# Altium footprint library Custom pcb footprint.PcbLib: 87 footprints (part 3 of 6)
Each footprint in its own frame and in the unit in brackets; x right, y up, seen from the top. Pads: shape width x height; smd on the part's side, far side on the other; paste and mask are expansions set on the pad; w line width, h text height; cw(c..) or ccw(c..) is an arc to the next point about the centre after c.
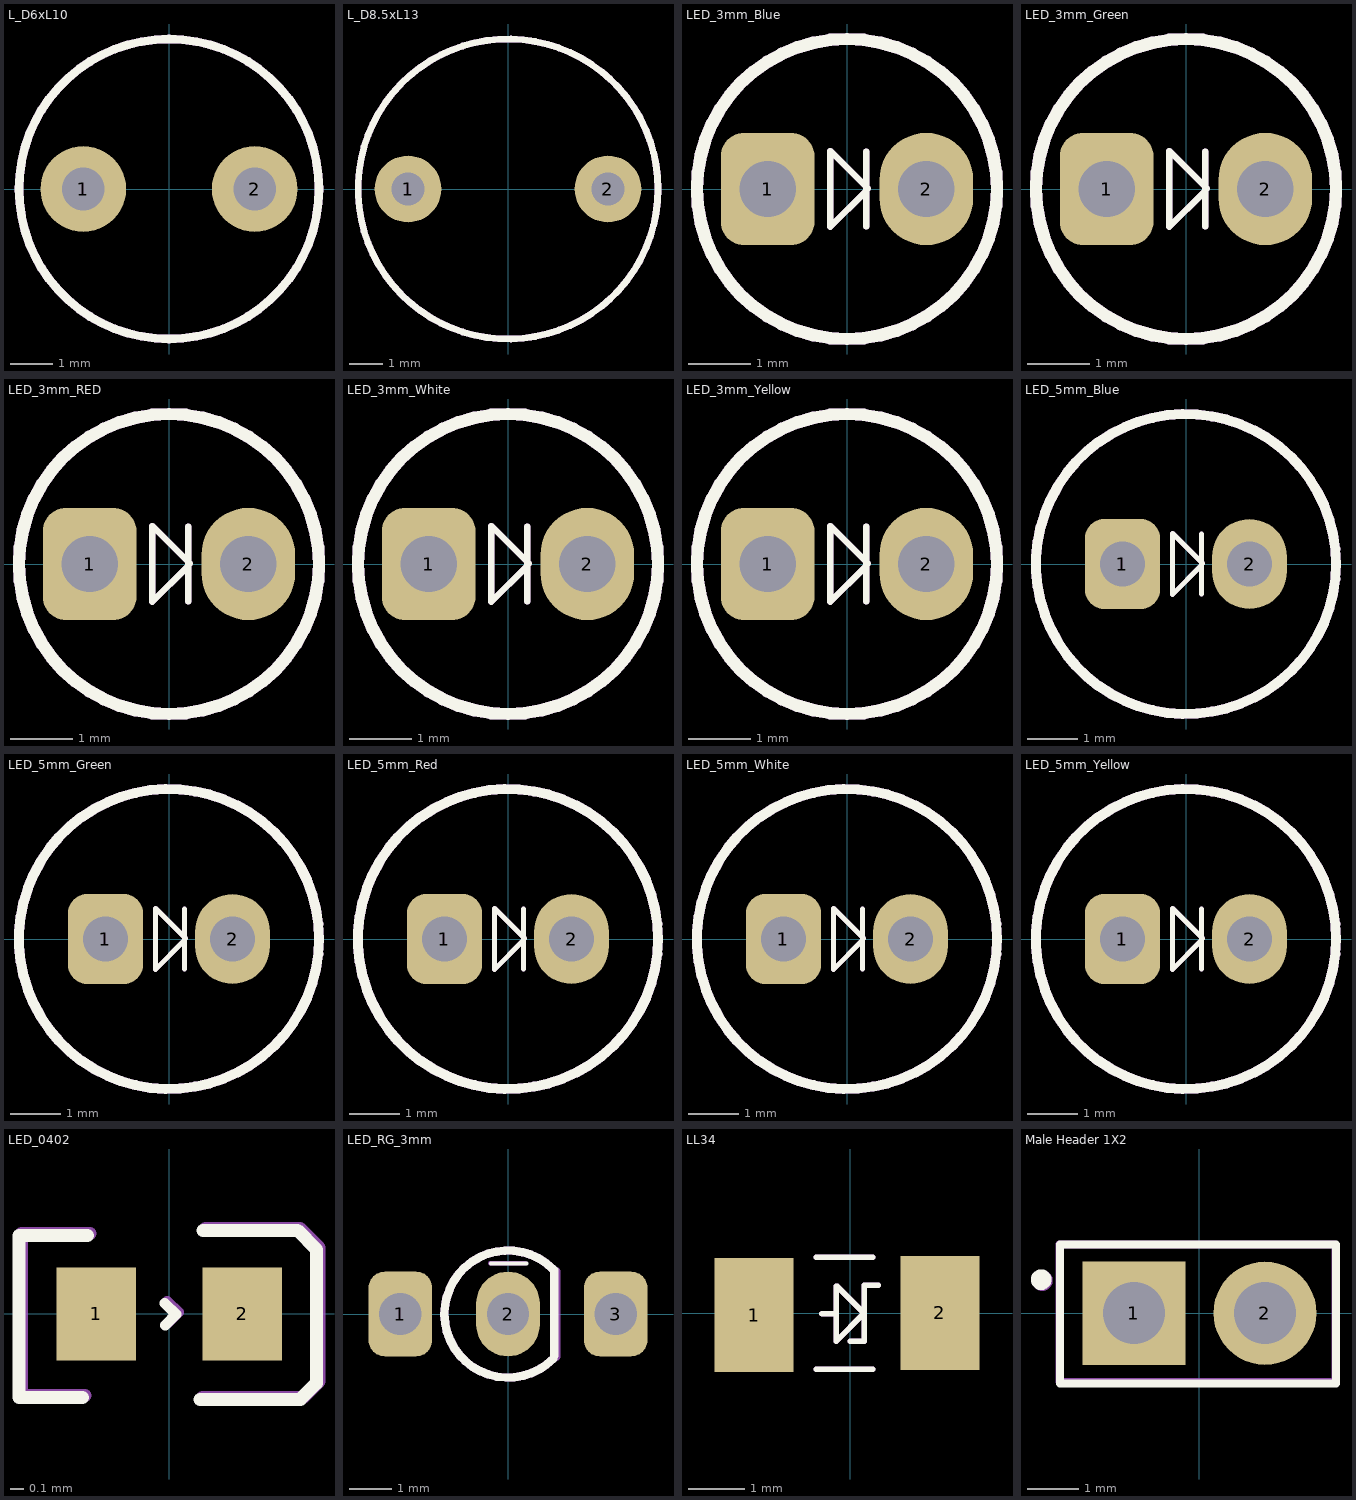
[diagram p2: the footprints below, top view; thin cyan lines are the x and y axes]

## L_D6xL10 [mm] "p=4mm"
pads (2):
  round 2 hole 1: 1(-2,0) 2(2,0)
Top Overlay:
  circle w0.2: c0,0 r3.5
Top Assembly:
  circle w0.2: c0,0 r3.5
  text "'.Designator'" at -1.442,-0.99 h1.52
3D body "L_D6xL10_p4.step": height 10.3, standoff -1.62, extent -3,-3 3,3

## L_D8.5xL13 [mm] "p=6mm"
pads (2):
  round 2 hole 1: 1(-3,0) 2(3,0)
Top Overlay:
  circle w0.2: c0,0 r4.5
Top Assembly:
  circle w0.2: c0,0 r4.5
  text "'.Designator'" at -5.746,-4.238 h1.52
3D body "L_D8.5xL13_p6.step": height 13.3, standoff -1.62, extent -4.25,-4.25 4.25,4.25

## LED_3mm_Blue [mm] "BLUE 3mm P2.54"
pads (2):
  rrect50% 1.5x1.8 hole 0.9: 1(-1.27,0)
  oval 1.5x1.8 hole 0.9: 2(1.27,0)
Top Overlay:
  circle w0.2: c0,0 r2.4
  lines w0.1: 0.29,-0.048 -0.268,-0.606 -0.268,0.61 0.332,0.01 ; 0.31,-0.6 0.31,0.6
Top Assembly:
  circle w0.2: c0,0 r2.4
  lines w0.1: 0.29,-0.048 -0.268,-0.606 -0.268,0.61 0.332,0.01 ; 0.31,-0.6 0.31,0.6
  text "'.Designator'" at -1.721,-1.719 h0.7
3D body "Blue_LED_TH_3mm.step": height 6.32, standoff -2.92, extent -1.925,-1.923 1.733,1.923

## LED_3mm_Green [mm] "Green 3mm P2.54"
pads (2):
  rrect50% 1.5x1.8 hole 0.9: 1(-1.27,0)
  oval 1.5x1.8 hole 0.9: 2(1.27,0)
Top Overlay:
  circle w0.2: c0,0 r2.4
  lines w0.1: 0.29,-0.048 -0.268,-0.606 -0.268,0.61 0.332,0.01 ; 0.31,-0.6 0.31,0.6
Top Assembly:
  circle w0.2: c0,0 r2.4
  lines w0.1: 0.29,-0.048 -0.268,-0.606 -0.268,0.61 0.332,0.01 ; 0.31,-0.6 0.31,0.6
  text "'.Designator'" at -1.721,-1.719 h0.7
3D body "Green_LED_TH_3mm.step": height 6.32, standoff -2.92, extent -1.925,-1.923 1.733,1.923

## LED_3mm_RED [mm] "Red 3mm P2.54"
pads (2):
  rrect50% 1.5x1.8 hole 0.9: 1(-1.27,0)
  oval 1.5x1.8 hole 0.9: 2(1.27,0)
Top Overlay:
  circle w0.2: c0,0 r2.4
  lines w0.1: 0.29,-0.048 -0.268,-0.606 -0.268,0.61 0.332,0.01 ; 0.31,-0.6 0.31,0.6
Top Assembly:
  circle w0.2: c0,0 r2.4
  lines w0.1: 0.29,-0.048 -0.268,-0.606 -0.268,0.61 0.332,0.01 ; 0.31,-0.6 0.31,0.6
  text "'.Designator'" at -1.721,-1.719 h0.7
3D body "Red_LED_TH_3mm.step": height 6.32, standoff -2.92, extent -1.901,-1.892 1.756,1.953

## LED_3mm_White [mm] "White 3mm P2.54"
pads (2):
  rrect50% 1.5x1.8 hole 0.9: 1(-1.27,0)
  oval 1.5x1.8 hole 0.9: 2(1.27,0)
Top Overlay:
  circle w0.2: c0,0 r2.4
  lines w0.1: 0.29,-0.048 -0.268,-0.606 -0.268,0.61 0.332,0.01 ; 0.31,-0.6 0.31,0.6
Top Assembly:
  circle w0.2: c0,0 r2.4
  lines w0.1: 0.29,-0.048 -0.268,-0.606 -0.268,0.61 0.332,0.01 ; 0.31,-0.6 0.31,0.6
  text "'.Designator'" at -1.721,-1.719 h0.7
3D body "White_LED_TH_3mm.step": height 6.32, standoff -2.92, extent -1.925,-1.923 1.733,1.923

## LED_3mm_Yellow [mm] "Yellow 3mm P2.54"
pads (2):
  rrect50% 1.5x1.8 hole 0.9: 1(-1.27,0)
  oval 1.5x1.8 hole 0.9: 2(1.27,0)
Top Overlay:
  circle w0.2: c0,0 r2.4
  lines w0.1: 0.29,-0.048 -0.268,-0.606 -0.268,0.61 0.332,0.01 ; 0.31,-0.6 0.31,0.6
Top Assembly:
  circle w0.2: c0,0 r2.4
  lines w0.1: 0.29,-0.048 -0.268,-0.606 -0.268,0.61 0.332,0.01 ; 0.31,-0.6 0.31,0.6
  text "'.Designator'" at -1.721,-1.719 h0.7
3D body "Yellow_LED_TH_3mm.step": height 6.32, standoff -2.92, extent -1.925,-1.923 1.733,1.923

## LED_5mm_Blue [mm] "BLUE 5mm P2.54"
pads (2):
  rrect50% 1.5x1.8 hole 0.9: 1(-1.27,0)
  oval 1.5x1.8 hole 0.9: 2(1.27,0)
Top Overlay:
  circle w0.2: c0,0 r3
  lines w0.1: 0.29,-0.048 -0.268,-0.606 -0.268,0.61 0.332,0.01 ; 0.31,-0.6 0.31,0.6
Top Assembly:
  circle w0.2: c0,0 r3
  lines w0.1: 0.29,-0.048 -0.268,-0.606 -0.268,0.61 0.332,0.01 ; 0.31,-0.6 0.31,0.6
  text "'.Designator'" at -1.721,-1.719 h0.7
3D body "BLue_LED_TH_5mm.step": height 9.6, standoff -2.92, extent -2.95,-2.95 2.655,2.95

## LED_5mm_Green [mm] "Green 5mm P2.54"
pads (2):
  rrect50% 1.5x1.8 hole 0.9: 1(-1.27,0)
  oval 1.5x1.8 hole 0.9: 2(1.27,0)
Top Overlay:
  circle w0.2: c0,0 r3
  lines w0.1: 0.29,-0.048 -0.268,-0.606 -0.268,0.61 0.332,0.01 ; 0.31,-0.6 0.31,0.6
Top Assembly:
  circle w0.2: c0,0 r3
  lines w0.1: 0.29,-0.048 -0.268,-0.606 -0.268,0.61 0.332,0.01 ; 0.31,-0.6 0.31,0.6
  text "'.Designator'" at -1.721,-1.719 h0.7
3D body "Green_LED_TH_5mm.step": height 9.6, standoff -2.92, extent -2.95,-2.95 2.655,2.95

## LED_5mm_Red [mm] "Red 5mm P2.54"
pads (2):
  rrect50% 1.5x1.8 hole 0.9: 1(-1.27,0)
  oval 1.5x1.8 hole 0.9: 2(1.27,0)
Top Overlay:
  circle w0.2: c0,0 r3
  lines w0.1: 0.29,-0.048 -0.268,-0.606 -0.268,0.61 0.332,0.01 ; 0.31,-0.6 0.31,0.6
Top Assembly:
  circle w0.2: c0,0 r3
  lines w0.1: 0.29,-0.048 -0.268,-0.606 -0.268,0.61 0.332,0.01 ; 0.31,-0.6 0.31,0.6
  text "'.Designator'" at -1.721,-1.719 h0.7
3D body "RED_LED_TH_5mm.step": height 9.6, standoff -2.92, extent -2.95,-2.95 2.655,2.95

## LED_5mm_White [mm] "White 5mm P2.54"
pads (2):
  rrect50% 1.5x1.8 hole 0.9: 1(-1.27,0)
  oval 1.5x1.8 hole 0.9: 2(1.27,0)
Top Overlay:
  circle w0.2: c0,0 r3
  lines w0.1: 0.29,-0.048 -0.268,-0.606 -0.268,0.61 0.332,0.01 ; 0.31,-0.6 0.31,0.6
Top Assembly:
  circle w0.2: c0,0 r3
  lines w0.1: 0.29,-0.048 -0.268,-0.606 -0.268,0.61 0.332,0.01 ; 0.31,-0.6 0.31,0.6
  text "'.Designator'" at -1.721,-1.719 h0.7
3D body "White_LED_TH_5mm.step": height 9.6, standoff -2.92, extent -2.95,-2.95 2.655,2.95

## LED_5mm_Yellow [mm] "Yellow 5mm P2.54"
pads (2):
  rrect50% 1.5x1.8 hole 0.9: 1(-1.27,0)
  oval 1.5x1.8 hole 0.9: 2(1.27,0)
Top Overlay:
  circle w0.2: c0,0 r3
  lines w0.1: 0.29,-0.048 -0.268,-0.606 -0.268,0.61 0.332,0.01 ; 0.31,-0.6 0.31,0.6
Top Assembly:
  circle w0.2: c0,0 r3
  lines w0.1: 0.29,-0.048 -0.268,-0.606 -0.268,0.61 0.332,0.01 ; 0.31,-0.6 0.31,0.6
  text "'.Designator'" at -1.721,-1.719 h0.7
3D body "Yellow_LED_TH_5mm.step": height 9.6, standoff -2.92, extent -2.95,-2.95 2.655,2.95

## LED_0402 [mm] "SMD LED"
pads (2):
  rect 0.6x0.7 smd: 1(-0.55,0) 2(0.55,0)
Top Overlay:
  lines w0.08: -0.033,0.081 0.05,-0.003 -0.031,-0.084
  lines w0.1: -0.656,-0.63 -1.134,-0.63 -1.134,0.592 -0.618,0.592 ; 0.232,-0.645 0.99,-0.645 1.111,-0.524 1.111,0.487 0.968,0.63 0.255,0.63
Top Assembly:
  lines w0.08: -0.014,0.095 0.069,0.012 -0.012,-0.07
  lines w0.1: -0.637,-0.616 -1.116,-0.616 -1.116,0.607 -0.6,0.607 ; 0.251,-0.631 1.008,-0.631 1.13,-0.509 1.13,0.501 0.987,0.645 0.274,0.645
  text "'.Designator'" at 0.687,-0.612 h0.4
3D body "ChipLedWithLensRed.stp": height 0.35, standoff 0, extent -0.502,-0.252 0.502,0.252

## LED_RG_3mm [mm]
pads (3):
  rrect50% 1.5x2 hole 1: 1(-2.54,0) 3(2.54,0)
  oval 1.5x2 hole 1: 2(0,0)
Top Overlay:
  lines w0.1: -0.4,1.189 0.44,1.189
  lines w0.2: 1.061,1.061 ccw(c0,0) 1.07,-1.051 ; 1.095,-0.988 1.095,1.039
Top Assembly:
  lines w0.1: -0.423,1.198 0.417,1.198
  lines w0.2: 1.061,1.061 ccw(c0,0) 1.07,-1.051 ; 1.136,-1.012 1.136,1.014
  text "'.Designator'" at -2.15,-1.167 h0.7
3D body "LED_3mm_comCathod_Bicolor.step": height 10.35, standoff -10.95, extent -2.816,-1.923 2.764,1.923

## LL34 [mm] "Zener"
pads (2):
  rect 1.4x2.03 smd: 1(-1.711,-0.034) 2(1.6,0.007)
Top Overlay:
  lines w0.1: -0.6,-1 0.4,-1 ; -0.6,1 0.4,1 ; -0.5,-0.01 -0.25,-0.01 ; -0.25,0.479 -0.25,-0.5 0.25,0 -0.229,0.479 ; 0,-0.5 0.25,-0.5 0.25,0.5 0.5,0.5
Top Assembly:
  lines w0.1: -0.6,-1 0.4,-1 ; -0.6,1 0.4,1 ; -0.25,-0.5 0.25,0 ; -0.25,-0.5 -0.25,0.479 -0.25,-0.5 ; -0.25,-0.5 0.25,0 ; 0.25,-0.5 0,-0.5 0.25,-0.5 ; 0.25,-0.5 0.25,0.5 ; 0.25,-0.5 0.25,0.5 ; 0.25,0 -0.229,0.479 0.25,0 ; 0.25,0.5 0.5,0.5 0.25,0.5 ; -0.5,-0.01 -0.25,-0.01 -0.5,-0.01
  text "'.Designator'" at -0.798,-0.612 h0.8
3D body "ZMM5231B-7--3DModel-STEP-510211.STEP": height 1.59, standoff 0.01, extent -1.784,-0.786 1.716,0.809

## Male Header 1X2 [mm]
pads (2):
  rect 2x2 hole 1.2: 1(-1.27,0)
  round 2 hole 1.2: 2(1.27,0)
Top Overlay:
  circle w0.2: c-3.068,0.649 r0.1
  lines w0.15: -2.703,-1.364 -2.703,1.331 2.646,1.331 2.646,-1.364 -2.703,-1.364
Top Assembly:
  circle w0.2: c-3.044,0.633 r0.1
  lines w0.15: -2.719,-1.331 -2.719,1.331 2.63,1.331 2.63,-1.331 -2.719,-1.331
  text "'.Designator'" at -2.15,-0.417 h0.7
3D body "Header, Male, 2.54mm, 1x2.STEP": height 8.74, standoff -2.8, extent -2.68,-1.27 2.4,1.27